# EAGLE library part REF198 (library NEWPARTS)
Precision Micropower, Low Dropout Voltage References
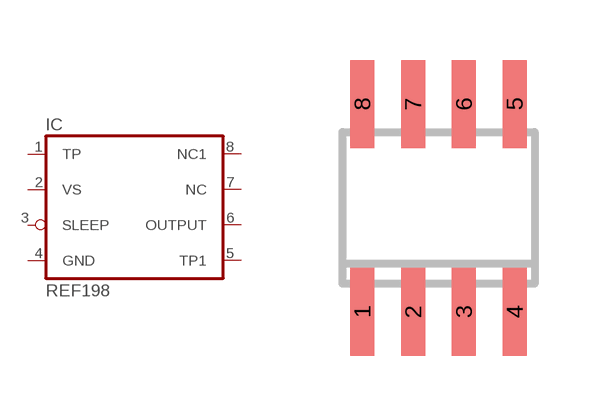
[diagram p2: symbol with the pads of SO08; footprint SO08]

Designator prefix IC

## REF198D  [SO08]
1  TP  in
2  VS  in
3  SLEEP  in
4  GND  pwr
5  TP1  pwr
6  OUTPUT  in
7  NC  in
8  NC1  out

## Footprint SO08 (pad centres in mm)
Small Outline Package 8 NS Package M08A
smd 0.6 x 2.2: 1 -1.905,-2.6; 2 -0.635,-2.6; 3 0.635,-2.6; 4 1.905,-2.6; 5 1.905,2.6; 6 0.635,2.6; 7 -0.635,2.6; 8 -1.905,2.6